# EAGLE library part RFM22 (library ATMEL)
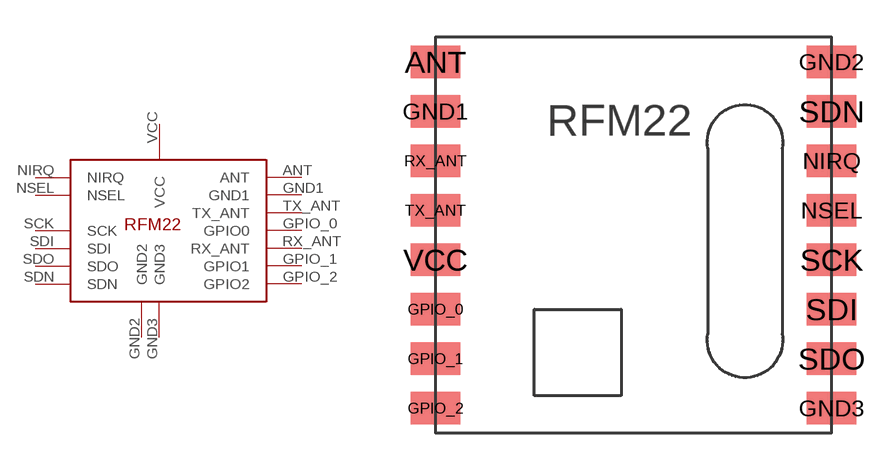
[diagram p12: symbol with the pads of RFM22; footprint RFM22]

Designator prefix -

## RFM22  [RFM22]
ANT  ANT
GND1  GND1
GND2  GND2
GND3  GND3
GPIO_0  GPIO0
GPIO_1  GPIO1
GPIO_2  GPIO2
NIRQ  NIRQ
NSEL  NSEL
RX_ANT  RX_ANT
SCK  SCK
SDI  SDI
SDN  SDN
SDO  SDO
TX_ANT  TX_ANT
VCC  VCC

## Footprint RFM22 (pad centres in mm)
smd 2 x 1.3: ANT 0,15; GND1 0,13; GND2 16,15; GND3 16,1; GPIO_0 0,5; GPIO_1 0,3; GPIO_2 0,1; NIRQ 16,11; NSEL 16,9; RX_ANT 0,11; SCK 16,7; SDI 16,5; SDN 16,13; SDO 16,3; TX_ANT 0,9; VCC 0,7